# Altium footprint library SON-6.PcbLib: 1 footprints
Each footprint in its own frame and in the unit in brackets; x right, y up, seen from the top. Pads: shape width x height; smd on the part's side, far side on the other; paste and mask are expansions set on the pad; w line width, h text height; cw(c..) or ccw(c..) is an arc to the next point about the centre after c.
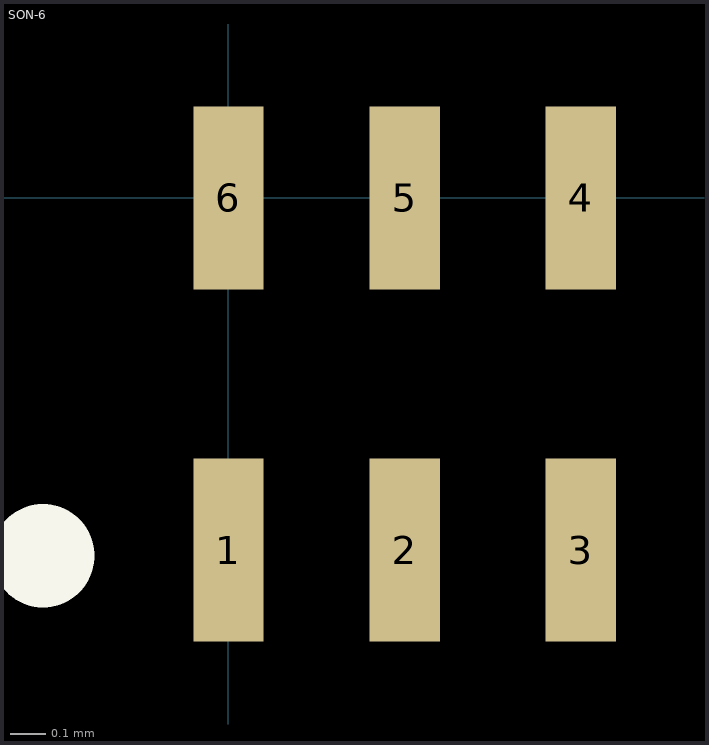
[diagram p0: the footprint, top view; thin cyan lines are the x and y axes]

## SON-6 [mm]
height 0.813
pads (6):
  rect 0.2x0.52 smd: 1(0,-1) 2(0.5,-1) 3(1,-1) 4(1,0) 5(0.5,0) 6(0,0)
TopOverlay:
  circle w0.254: c-0.528,-1.016 r0.02